# EAGLE library part KP0215ACAKG03RGB-1FJB (library switch-nkk)
SWITCH PUSH SPST-NO 0.1A 12V
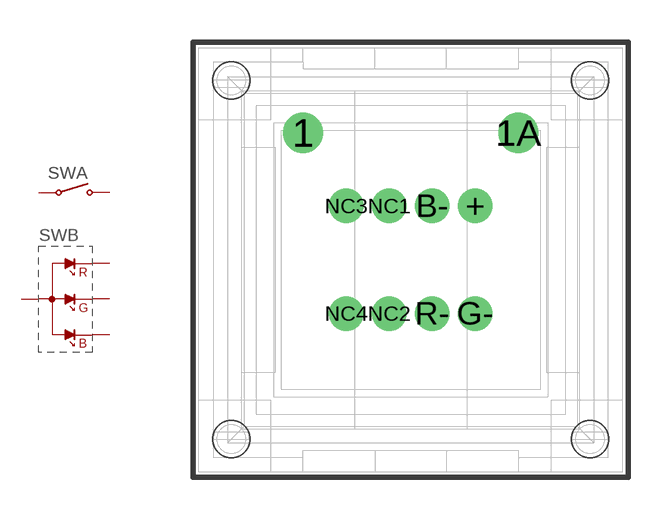
[diagram p2: symbol with the pads of KP0215ACAKG03RGB-1FJB; footprint KP0215ACAKG03RGB-1FJB]

Designator prefix SW; gates A=SW-SPST B=SWLED-RGB

## KP0215ACAKG03RGB-1FJB  [KP0215ACAKG03RGB-1FJB]
1  A:COM  pas
1A  A:NO  pas
+  B:A+  pas
B-  B:B-  pas
G-  B:G-  pas
R-  B:R-  pas

## Footprint KP0215ACAKG03RGB-1FJB (pad centres in mm)
PUSH BUTTON SWITCH
drill 0.914: 1 -3.81,4.496; 1A 3.81,4.496
drill 0.711: + 2.286,1.905; B- 0.762,1.905; G- 2.286,-1.905; NC1 -0.762,1.905; NC2 -0.762,-1.905; NC3 -2.286,1.905; NC4 -2.286,-1.905; R- 0.762,-1.905
hole 1.3 at 6.35,-6.35
hole 1.3 at -6.35,-6.35
hole 1.3 at -6.35,6.35
hole 1.3 at 6.35,6.35